# Altium schematic symbol library SFMC-110-02-L-D.Schlib: 1 symbol
Pins are listed as number, name and electrical type; pins without a type are passive.

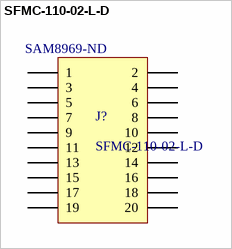
[diagram p0: symbol SFMC-110-02-L-D]

## SFMC-110-02-L-D
designator J?  Supplier Part Number 1: SAM8969-ND
20 pos 50mil pitch low profile SMD connector; Supplier 1: Digi-Key
footprint SFMC-110-02-L-D (CONN RCPT 20POS 0.05 GOLD SMD)
pins: 1, 2, 3, 4, 5, 6, 7, 8, 9, 10, 11, 12, 13, 14, 15, 16, 17, 18, 19, 20